# Altium schematic symbol library SCH - POWER - SWITCHMODE - TI TPS5120-EP_DBT_30.SchLib: 1 symbol
Pins are listed as number, name and electrical type; pins without a type are passive.

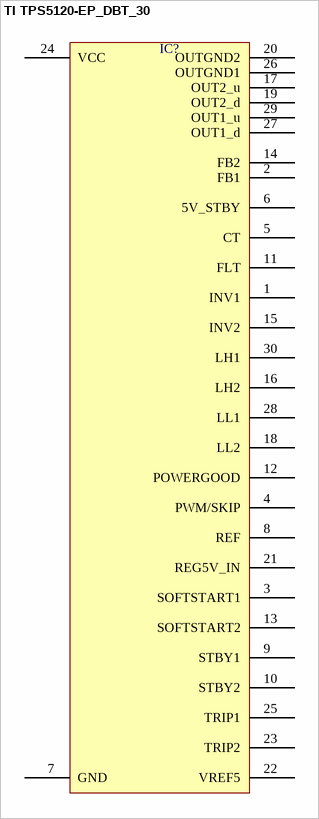
[diagram p0: symbol TI TPS5120-EP_DBT_30]

## TI TPS5120-EP_DBT_30
designator IC?  (value not drawn)
pins: 1 INV1, 2 FB1, 3 SOFTSTART1, 4 PWM/SKIP, 5 CT, 6 5V_STBY, 7 GND, 8 REF, 9 STBY1, 10 STBY2, 11 FLT, 12 POWERGOOD, 13 SOFTSTART2, 14 FB2, 15 INV2, 16 LH2, 17 OUT2_u, 18 LL2, 19 OUT2_d, 20 OUTGND2, 21 REG5V_IN, 22 VREF5, 23 TRIP2, 24 VCC, 25 TRIP1, 26 OUTGND1, 27 OUT1_d, 28 LL1, 29 OUT1_u, 30 LH1